# EAGLE library part PIC32MX795F512L-X_PT (library zenpirate)
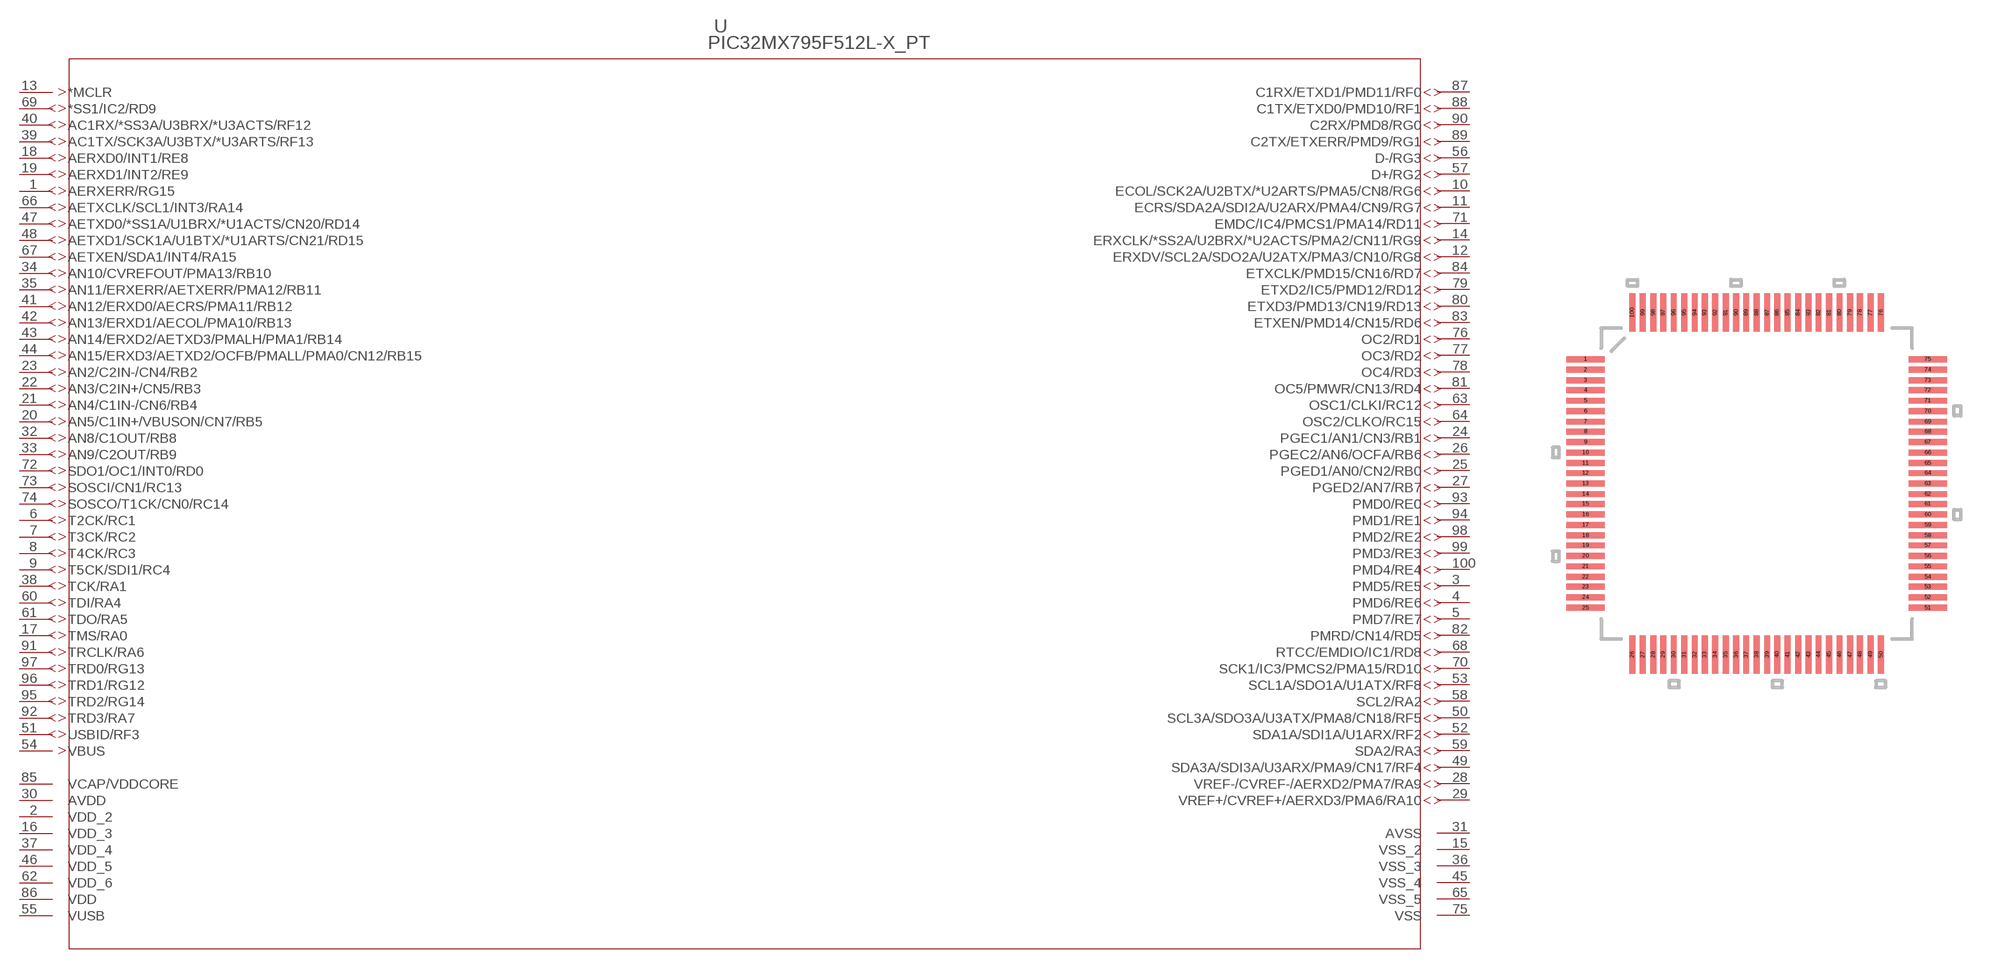
[diagram p5: symbol with the pads of TQFP100_12X12MC; footprint TQFP100_12X12MC]

Designator prefix -

## PIC32MX795F512L-X_PT  [TQFP100_12X12MC]
1  AERXERR/RG15
2  VDD_2  pwr
3  PMD5/RE5
4  PMD6/RE6
5  PMD7/RE7
6  T2CK/RC1
7  T3CK/RC2
8  T4CK/RC3
9  T5CK/SDI1/RC4
10  ECOL/SCK2A/U2BTX/*U2ARTS/PMA5/CN8/RG6
11  ECRS/SDA2A/SDI2A/U2ARX/PMA4/CN9/RG7
12  ERXDV/SCL2A/SDO2A/U2ATX/PMA3/CN10/RG8
13  *MCLR  in
14  ERXCLK/*SS2A/U2BRX/*U2ACTS/PMA2/CN11/RG9
15  VSS_2  pwr
16  VDD_3  pwr
17  TMS/RA0
18  AERXD0/INT1/RE8
19  AERXD1/INT2/RE9
20  AN5/C1IN+/VBUSON/CN7/RB5
21  AN4/C1IN-/CN6/RB4
22  AN3/C2IN+/CN5/RB3
23  AN2/C2IN-/CN4/RB2
24  PGEC1/AN1/CN3/RB1
25  PGED1/AN0/CN2/RB0
26  PGEC2/AN6/OCFA/RB6
27  PGED2/AN7/RB7
28  VREF-/CVREF-/AERXD2/PMA7/RA9
29  VREF+/CVREF+/AERXD3/PMA6/RA10
30  AVDD  pwr
31  AVSS  pwr
32  AN8/C1OUT/RB8
33  AN9/C2OUT/RB9
34  AN10/CVREFOUT/PMA13/RB10
35  AN11/ERXERR/AETXERR/PMA12/RB11
36  VSS_3  pwr
37  VDD_4  pwr
38  TCK/RA1
39  AC1TX/SCK3A/U3BTX/*U3ARTS/RF13
40  AC1RX/*SS3A/U3BRX/*U3ACTS/RF12
41  AN12/ERXD0/AECRS/PMA11/RB12
42  AN13/ERXD1/AECOL/PMA10/RB13
43  AN14/ERXD2/AETXD3/PMALH/PMA1/RB14
44  AN15/ERXD3/AETXD2/OCFB/PMALL/PMA0/CN12/RB15
45  VSS_4  pwr
46  VDD_5  pwr
47  AETXD0/*SS1A/U1BRX/*U1ACTS/CN20/RD14
48  AETXD1/SCK1A/U1BTX/*U1ARTS/CN21/RD15
49  SDA3A/SDI3A/U3ARX/PMA9/CN17/RF4
50  SCL3A/SDO3A/U3ATX/PMA8/CN18/RF5
51  USBID/RF3
52  SDA1A/SDI1A/U1ARX/RF2
53  SCL1A/SDO1A/U1ATX/RF8
54  VBUS  in
55  VUSB  pwr
56  D-/RG3
57  D+/RG2
58  SCL2/RA2
59  SDA2/RA3
60  TDI/RA4
61  TDO/RA5
62  VDD_6  pwr
63  OSC1/CLKI/RC12
64  OSC2/CLKO/RC15
65  VSS_5  pwr
66  AETXCLK/SCL1/INT3/RA14
67  AETXEN/SDA1/INT4/RA15
68  RTCC/EMDIO/IC1/RD8
69  *SS1/IC2/RD9
70  SCK1/IC3/PMCS2/PMA15/RD10
71  EMDC/IC4/PMCS1/PMA14/RD11
72  SDO1/OC1/INT0/RD0
73  SOSCI/CN1/RC13
74  SOSCO/T1CK/CN0/RC14
75  VSS  pwr
76  OC2/RD1
77  OC3/RD2
78  OC4/RD3
79  ETXD2/IC5/PMD12/RD12
80  ETXD3/PMD13/CN19/RD13
81  OC5/PMWR/CN13/RD4
82  PMRD/CN14/RD5
83  ETXEN/PMD14/CN15/RD6
84  ETXCLK/PMD15/CN16/RD7
85  VCAP/VDDCORE  pwr
86  VDD  pwr
87  C1RX/ETXD1/PMD11/RF0
88  C1TX/ETXD0/PMD10/RF1
89  C2TX/ETXERR/PMD9/RG1
90  C2RX/PMD8/RG0
91  TRCLK/RA6
92  TRD3/RA7
93  PMD0/RE0
94  PMD1/RE1
95  TRD2/RG14
96  TRD1/RG12
97  TRD0/RG13
98  PMD2/RE2
99  PMD3/RE3
100  PMD4/RE4

## Footprint TQFP100_12X12MC (pad centres in mm)
smd 1.473 x 0.229: 1 -6.604,4.801; 2 -6.604,4.394; 3 -6.604,3.988; 4 -6.604,3.607; 5 -6.604,3.2; 6 -6.604,2.794; 7 -6.604,2.388; 8 -6.604,2.007; 9 -6.604,1.6; 10 -6.604,1.194; 11 -6.604,0.787; 12 -6.604,0.406; 13 -6.604,0; 14 -6.604,-0.406; 15 -6.604,-0.787; 16 -6.604,-1.194; 17 -6.604,-1.6; 18 -6.604,-2.007; 19 -6.604,-2.388; 20 -6.604,-2.794; 21 -6.604,-3.2; 22 -6.604,-3.607; 23 -6.604,-3.988; 24 -6.604,-4.394; 25 -6.604,-4.801; 51 6.604,-4.801; 52 6.604,-4.394; 53 6.604,-3.988; 54 6.604,-3.607; 55 6.604,-3.2; 56 6.604,-2.794; 57 6.604,-2.388; 58 6.604,-2.007; 59 6.604,-1.6; 60 6.604,-1.194; 61 6.604,-0.787; 62 6.604,-0.406; 63 6.604,0; 64 6.604,0.406; 65 6.604,0.787; 66 6.604,1.194; 67 6.604,1.6; 68 6.604,2.007; 69 6.604,2.388; 70 6.604,2.794; 71 6.604,3.2; 72 6.604,3.607; 73 6.604,3.988; 74 6.604,4.394; 75 6.604,4.801
smd 0.229 x 1.473: 26 -4.801,-6.604; 27 -4.394,-6.604; 28 -3.988,-6.604; 29 -3.607,-6.604; 30 -3.2,-6.604; 31 -2.794,-6.604; 32 -2.388,-6.604; 33 -2.007,-6.604; 34 -1.6,-6.604; 35 -1.194,-6.604; 36 -0.787,-6.604; 37 -0.406,-6.604; 38 0,-6.604; 39 0.406,-6.604; 40 0.787,-6.604; 41 1.194,-6.604; 42 1.6,-6.604; 43 2.007,-6.604; 44 2.388,-6.604; 45 2.794,-6.604; 46 3.2,-6.604; 47 3.607,-6.604; 48 3.988,-6.604; 49 4.394,-6.604; 50 4.801,-6.604; 76 4.801,6.604; 77 4.394,6.604; 78 3.988,6.604; 79 3.607,6.604; 80 3.2,6.604; 81 2.794,6.604; 82 2.388,6.604; 83 2.007,6.604; 84 1.6,6.604; 85 1.194,6.604; 86 0.787,6.604; 87 0.406,6.604; 88 0,6.604; 89 -0.406,6.604; 90 -0.787,6.604; 91 -1.194,6.604; 92 -1.6,6.604; 93 -2.007,6.604; 94 -2.388,6.604; 95 -2.794,6.604; 96 -3.2,6.604; 97 -3.607,6.604; 98 -3.988,6.604; 99 -4.394,6.604; 100 -4.801,6.604